# EAGLE library part AMIS42665 (library my library)
CAN bus to UART transceiver
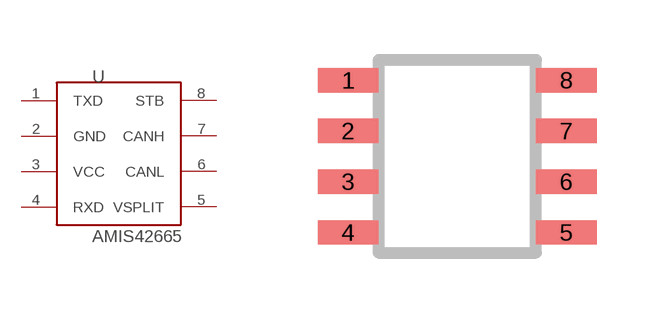
[diagram p0: symbol with the pads of SOIC-8; footprint SOIC-8]

Designator prefix -

## AMIS42665  [SOIC-8]
1  TXD
2  GND
3  VCC
4  RXD
5  VSPLIT
6  CANL
7  CANH
8  STB

## Footprint SOIC-8 (pad centres in mm)
smd 1.524 x 0.61: 1 0,3.81; 2 0,2.54; 3 0,1.27; 4 0,0; 5 5.461,0; 6 5.461,1.27; 7 5.461,2.54; 8 5.461,3.81